# Altium footprint library SHT30-DIS-B.PcbLib: 1 footprints
Each footprint in its own frame and in the unit in brackets; x right, y up, seen from the top. Pads: shape width x height; smd on the part's side, far side on the other; paste and mask are expansions set on the pad; w line width, h text height; cw(c..) or ccw(c..) is an arc to the next point about the centre after c.
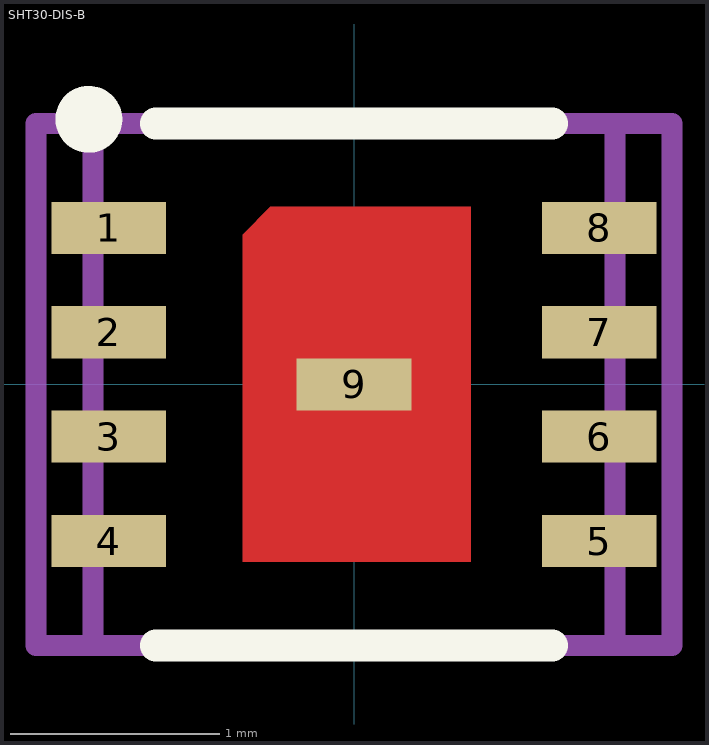
[diagram p0: the footprint, top view; thin cyan lines are the x and y axes]

## SHT30-DIS-B [mm]
height 1
pads (9):
  rect 0.55x0.25 smd: 1(-1.175,0.75) 2(-1.175,0.25) 3(-1.175,-0.25) 4(-1.175,-0.75) 5(1.175,-0.75) 6(1.175,-0.25) 7(1.175,0.25) 8(1.175,0.75) 9(0,0)
Top Layer:
  region: -0.533,-0.85 -0.533,0.717 -0.4,0.85 0.559,0.85 0.559,-0.85
Top Overlay:
  circle w0.16: c-1.27,1.27 r0.08
  lines w0.152: -0.95,-1.25 0.95,-1.25 ; -0.95,1.25 0.95,1.25
Mechanical 13:
  lines w0.1: -1.25,-1.25 -1.25,1.25 1.25,1.25 1.25,-1.25 -1.25,-1.25
Mechanical 15:
  lines w0.1: -1.524,-1.25 1.524,-1.25 1.524,1.25 -1.524,1.25 -1.524,-1.25
3D body: height 0.9, standoff 0, extent -1.26,-1.25 1.26,1.25